# Altium schematic symbol library varistor.SchLib: 1 symbol
Pins are listed as number, name and electrical type; pins without a type are passive.

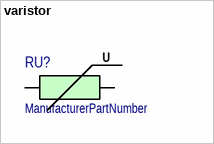
[diagram p0: symbol varistor]

## varistor
designator RU?  (value not drawn)
ManufacturerPartNumber: ManufacturerPartNumber
pins: 1, 2
text: U